# Altium footprint library PcbLib1.pcblib: 3 footprints
Each footprint in its own frame and in the unit in brackets; x right, y up, seen from the top. Pads: shape width x height; smd on the part's side, far side on the other; paste and mask are expansions set on the pad; w line width, h text height; cw(c..) or ccw(c..) is an arc to the next point about the centre after c.
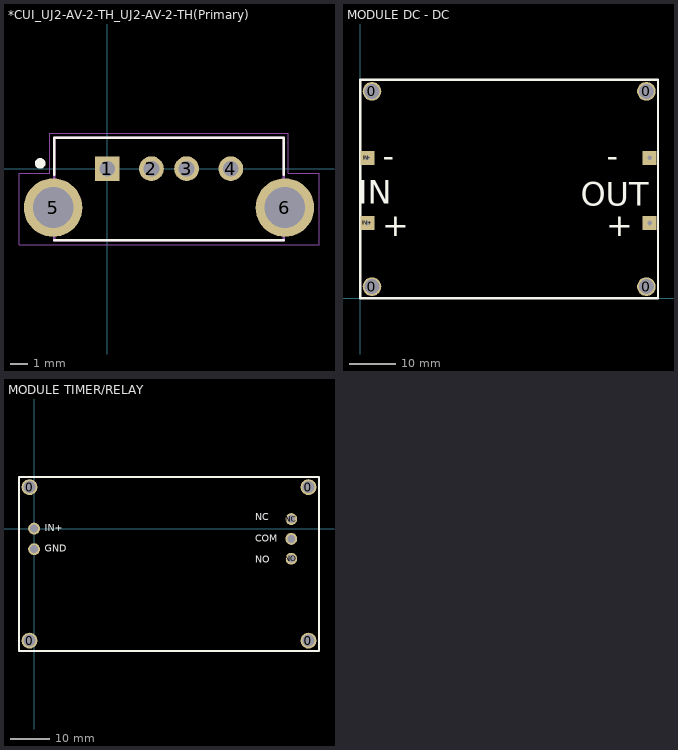
[diagram p0: the footprints below, top view; thin cyan lines are the x and y axes]

## *CUI_UJ2-AV-2-TH_UJ2-AV-2-TH(Primary) [mm]
pads (6):
  rect 1.408x1.408 hole 0.9: 1(0,0)
  round 1.408 hole 0.9: 2(2.5,0) 3(4.5,0) 4(7,0)
  round 3.316 hole 2.3: 5(-3.07,-2.2) 6(10.07,-2.2)
Top Overlay:
  circle w0.3: c-3.8,0.3 r0.15
  lines w0.127: -3,-4.05 10,-4.05 ; -3,-0.35 -3,1.75 10,1.75 10,-0.35
Mechanical 4:
  circle w0.3: c0,0.05 r0.15
  circle w0.3: c0,0.05 r0.15
  lines w0.127: -3,-4.05 -3,1.75 ; -3,-4.05 10,-4.05 ; -3,-4.05 -3,1.75 ; -3,-4.05 10,-4.05 ; -3,1.75 10,1.75 ; -3,1.75 10,1.75 ; 10,-4.05 10,1.75 ; 10,-4.05 10,1.75
Mechanical 16:
  lines w0.05: -5,-4.3 -5,-0.25 -3.25,-0.25 -3.25,2 10.25,2 10.25,-0.25 12,-0.25 12,-4.3 -5,-4.3
3D body "uj2-av-1-th.stp": height 14.8, standoff -3.15, extent -3.937,-5.02 11.067,2.48

## MODULE DC - DC [mm]
pads (8):
  round 4 hole 3.2: 0(2.5,2.5) 0(2.5,44.5) 0(61.5,2.5) 0(61.5,44.5)
  rect 3x3 hole 1: IN+(1.5,16.2) IN-(1.5,30.2) OUT+(62.2,16.2) OUT-(62.2,30.2)
Top Overlay:
  lines w0.5: 0,0 0,47 64,47 64,0 0,0
  text "-" at 4.826,28.194 h5
  text "+" at 4.699,13.335 h5
  text "IN" at -0.508,20.32 h5
  text "+" at 52.832,13.335 h5
  text "-" at 52.959,28.194 h5
  text "OUT" at 47.371,19.939 h5

## MODULE TIMER/RELAY [mm]
pads (9):
  round 4 hole 3: 0(-1.143,-28.321) 0(-1.143,10.473) 0(69.342,-28.321) 0(69.342,10.473)
  round 3 hole 2: COM(65,-2.603) GND(0,-5.207) IN+(0,0) NC(65,2.413) NO(65,-7.62)
Top Overlay:
  lines w0.5: -3.81,-30.919 -3.81,13.081 70.19,13.081 72.009,13.081 72.009,11.43 72.009,-30.988 -3.683,-30.988
  text "IN+" at 2.667,-1.27 h3
  text "GND" at 2.667,-6.477 h3
  text "NC" at 55.88,1.441 h3
  text "COM" at 55.88,-3.937 h3
  text "NO" at 55.88,-9.271 h3